# EAGLE library part FXMA2102 (library lazurite)
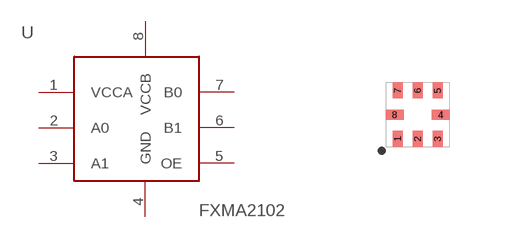
[diagram p3: symbol with the pads of MICROPACK; footprint MICROPACK]

Designator prefix -

## FXMA2102  [MICROPACK]
1  VCCA
2  A0
3  A1
4  GND
5  OE
6  B1
7  B0
8  VCCB

## Footprint MICROPACK (pad centres in mm)
smd 0.25 x 0.4: 1 -0.5,-0.605; 2 0,-0.605; 3 0.5,-0.605; 5 0.5,0.605; 6 0,0.605; 7 -0.5,0.605
smd 0.45 x 0.25: 4 0.575,0; 8 -0.575,0